# EAGLE library part LT1962 (library IC)
Linear Technology LT1962 Series 300mA, Low Noise, Micropower LDO Regulator (1.5V, 1.8V, 2.5V, 3V, 3.3V, 5V)
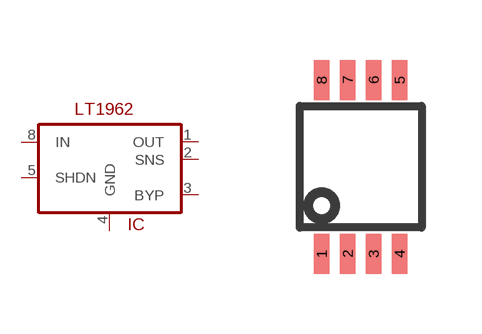
[diagram p89: symbol with the pads of MSOP-8; footprint MSOP-8]

Designator prefix IC

## LT1962  [MSOP-8]
1  OUT  pwr
2  SNS  pwr
3  BYP
4  GND  pwr
5  SHDN
8  IN  pwr

## Footprint MSOP-8 (pad centres in mm)
Linear Tech MSOP-8, National Semiconductor MM, On-Semi Micro8 (DM)
smd 0.38 x 1: 1 -0.975,-2.175; 2 -0.325,-2.175; 3 0.325,-2.175; 4 0.975,-2.175; 5 0.975,2.175; 6 0.325,2.175; 7 -0.325,2.175; 8 -0.975,2.175